# EAGLE library part ADA_MAX31865 (library dl9sec_public)
Adafruit Pt100/1000 MAX31865 Board PT100: https://www.adafruit.com/product/3328 PT1000: https://www.adafruit.com/product/3648
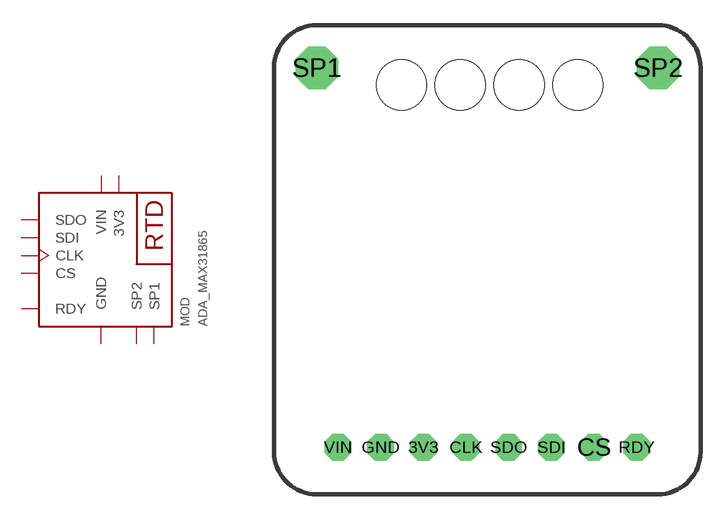
[diagram p1: symbol with the pads of ADA_MAX31865; footprint ADA_MAX31865]

Designator prefix MOD

## ADA_MAX31865_PT100  [ADA_MAX31865]
3V3  3V3  pwr
CLK  CLK  in
CS  CS  in
GND  GND  pwr
RDY  RDY  out
SDI  SDI  in
SDO  SDO  out
SP1  SP1  pas
SP2  SP2  pas
VIN  VIN  pwr

## ADA_MAX31865_PT1000  [ADA_MAX31865]
Pads as for ADA_MAX31865

## Footprint ADA_MAX31865 (pad centres in mm)
Adafruit Pt100/1000 MAX31865 Board https://www.adafruit.com/product/3328 https://www.adafruit.com/product/3648
drill 0.8 pad 1.6 octagon: 3V3 8.89,2.794; CLK 11.43,2.794; CS 19.05,2.794; GND 6.35,2.794; RDY 21.59,2.794; SDI 16.51,2.794; SDO 13.97,2.794; VIN 3.81,2.794
drill 1.2 pad 2.54 octagon: SP1 2.54,25.4; SP2 22.86,25.4
hole 3 at 18.09,24.384
hole 3 at 14.59,24.384
hole 3 at 11.09,24.384
hole 3 at 7.59,24.384